# Altium footprint library Würth-Elektronik.PcbLib: 7 footprints
Each footprint in its own frame and in the unit in brackets; x right, y up, seen from the top. Pads: shape width x height; smd on the part's side, far side on the other; paste and mask are expansions set on the pad; w line width, h text height; cw(c..) or ccw(c..) is an arc to the next point about the centre after c.
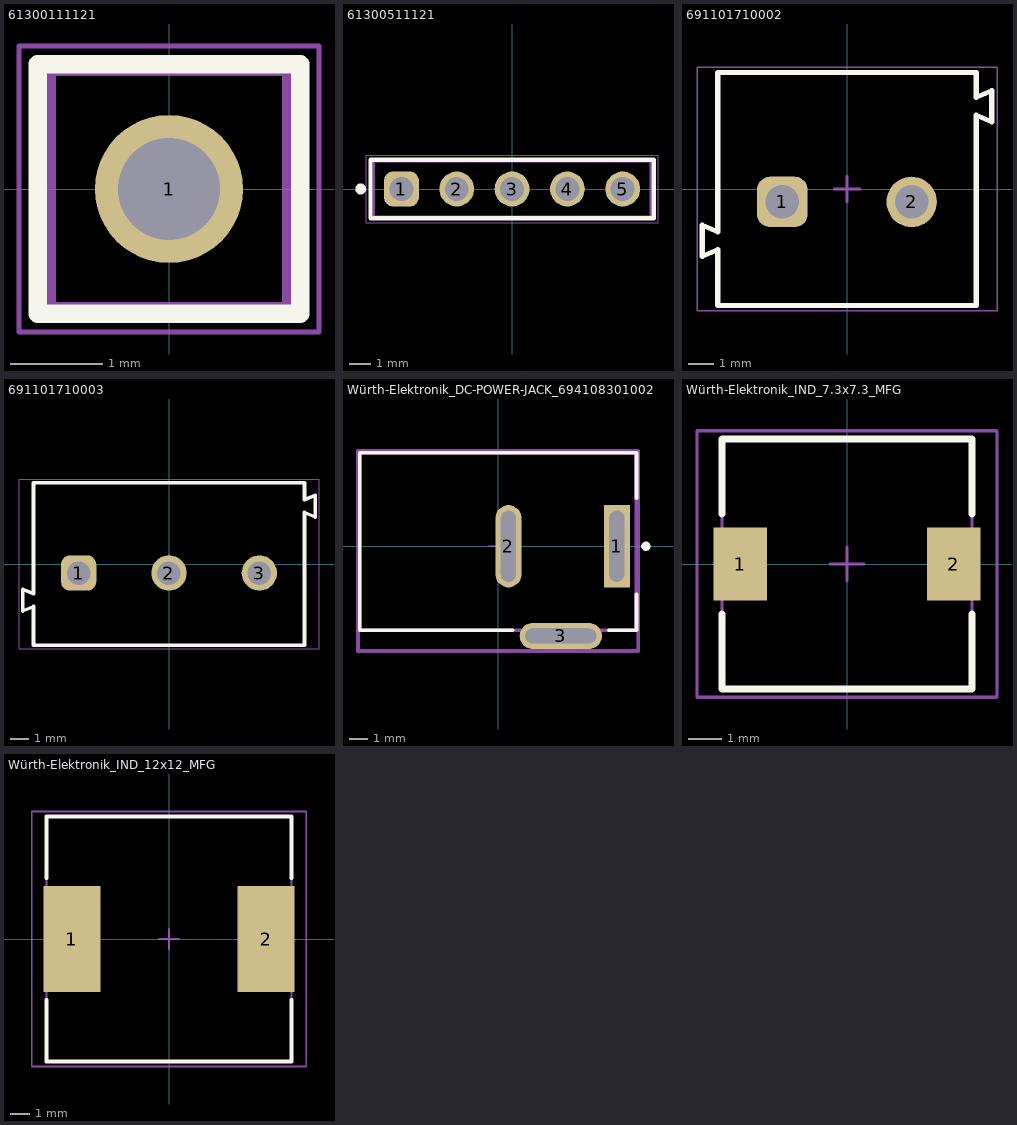
[diagram p0: the footprints below, top view; thin cyan lines are the x and y axes]

## 61300111121 [mm] "Pin Header, pitch 2.54 mm, THT, Vertical, single row, 1p"
height 8.54
pads (1):
  round 1.6 hole 1.1: 1(0,0)
Top Overlay:
  lines w0.2: -1.42,-1.345 -1.42,1.345 1.42,1.345 1.42,-1.345 -1.42,-1.345
Top Courtyard:
  lines w0.05: -1.62,-1.545 1.62,-1.545 1.62,1.545 -1.62,1.545 -1.62,-1.545
Top Component Outline:
  lines w0.1: -1.27,-1.27 1.27,-1.27 1.27,1.27 -1.27,1.27 -1.27,-1.27
Top Designator:
  text ".Designator" at -4.998,-0.333 h1
Top Component Center:
  lines w0.05: -0.5,0 0.5,0 ; 0,-0.5 0,0.5
3D body "61300111121.stp": height 8.57, standoff -2.97, extent -1.27,-1.27 1.27,1.27

## 61300511121 [mm] "Pin Header, pitch 2.54 mm, THT, Vertical, single row, 5p"
height 8.54
pads (5):
  rrect50% 1.6x1.6 hole 1.1: 1(-5.08,0)
  round 1.6 hole 1.1: 2(-2.54,0) 3(0,0) 4(2.54,0) 5(5.08,0)
Top Overlay:
  circle w0.25: c-6.95,0 r0.125
  lines w0.2: -6.5,-1.345 6.5,-1.345 6.5,1.345 -6.5,1.345 -6.5,-1.345
Top Courtyard:
  lines w0.05: -6.7,-1.545 -6.7,1.545 6.7,1.545 6.7,-1.545 -6.7,-1.545
Top Component Outline:
  lines w0.1: -6.35,-1.27 -6.35,1.27 6.35,1.27 6.35,-1.27 -6.35,-1.27
Top Designator:
  text ".Designator" at -7.498,-0.5 h1.5
Top Component Center:
  lines w0.05: -0.5,0 0.5,0 ; 0,-0.5 0,0.5
3D body "61300511121.stp": height 8.57, standoff -2.97, extent -6.35,-1.27 6.35,1.27

## 691101710002 [mm] "5,00mm - modular - blue - Horizontal entry with pressure clamp - 12,6mm height - 02p"
height 12.6
pads (2):
  rrect50% 1.95x1.95 hole 1.3: 1(-2.5,-0.5)
  round 1.95 hole 1.3: 2(2.5,-0.5)
Top Overlay:
  lines w0.2: -5,-2.35 -5.6,-2.6 -5.6,-1.4 -5,-1.65 -5,4.5 5,4.5 5,3.55 5.6,3.8 5.6,2.6 5,2.85 5,-4.5 -5,-4.5 -5,-2.35
Top Courtyard:
  lines w0.05: -5.8,-4.7 -5.8,4.7 5.8,4.7 5.8,-4.7 -5.8,-4.7
Top 3D Body:
  lines w0.1: -5,-2.35 -5.6,-2.6 -5.6,-1.4 -5,-1.65 -5,4.5 5,4.5 5,3.55 5.6,3.8 5.6,2.6 5,2.85 5,-4.5 -5,-4.5 -5,-2.35
Top Assembly:
  lines w0.1: -5,-2.35 -5.6,-2.6 -5.6,-1.4 -5,-1.65 -5,4.5 5,4.5 5,3.55 5.6,3.8 5.6,2.6 5,2.85 5,-4.5 -5,-4.5 -5,-2.35
Top Designator:
  text ".Designator" at -3.647,-0.357 h1
Top Component Center:
  lines w0.1: -0.5,0 0.5,0 ; 0,-0.5 0,0.5
3D body "691101710002.stp": height 12.65, standoff -3.75, extent -5.6,-4.5 5.6,4.5

## 691101710003 [mm] "5,00mm - modular - blue - Horizontal entry with pressure clamp - 12,6mm height - 03p"
height 12.6
pads (3):
  rrect50% 1.95x1.95 hole 1.3: 1(-5,-0.5)
  round 1.95 hole 1.3: 2(0,-0.5) 3(5,-0.5)
Top Overlay:
  lines w0.2: -7.5,-2.35 -8.1,-2.6 -8.1,-1.4 -7.5,-1.65 -7.5,4.5 7.5,4.5 7.5,3.55 8.1,3.8 8.1,2.6 7.5,2.85 7.5,-4.5 -7.5,-4.5 -7.5,-2.35
Top Courtyard:
  lines w0.05: -8.3,-4.7 8.3,-4.7 8.3,4.7 -8.3,4.7 -8.3,-4.7
Top 3D Body:
  lines w0.1: -7.5,-2.35 -8.1,-2.6 -8.1,-1.4 -7.5,-1.65 -7.5,4.5 7.5,4.5 7.5,3.55 8.1,3.8 8.1,2.6 7.5,2.85 7.5,-4.5 -7.5,-4.5 -7.5,-2.35
Top Assembly:
  lines w0.1: -7.5,-2.35 -8.1,-2.6 -8.1,-1.4 -7.5,-1.65 -7.5,4.5 7.5,4.5 7.5,3.55 8.1,3.8 8.1,2.6 7.5,2.85 7.5,-4.5 -7.5,-4.5 -7.5,-2.35
Top Designator:
  text ".Designator" at -3.647,-0.357 h1
Top Component Center:
  lines w0.1: -0.5,0 0.5,0 ; 0,-0.5 0,0.5
3D body "691101710003.stp": height 12.65, standoff -3.75, extent -8.1,-4.5 8.1,4.5

## Würth-Elektronik_DC-POWER-JACK_694108301002 [mm]
pads (3):
  rect 1.4x4.4 hole 3.8 slot 0.8 at 0 deg paste-2539.97 mask+0: 1(6.35,0)
  rrect100% 1.4x4.4 hole 3.8 slot 0.8 at 0 deg paste-2539.97 mask+0: 2(0.55,0)
  rrect100% 4.4x1.4 hole 0.8 slot 3.8 at 0 deg paste-2539.97 mask+0: 3(3.35,-4.8)
Top Overlay:
  circle w0.25: c7.9,0 r0.125
  lines w0.2: 0.775,-4.5 -7.4,-4.5 -7.4,5 7.4,5 7.4,2.575 ; 5.925,-4.5 7.4,-4.5 7.4,-2.575
Mechanical 10:
  lines w0.2: -7.5,-5.6 -7.5,5.1 7.5,5.1 7.5,-5.6 -7.5,-5.6
  text ".Designator" at 0,-0.251 h1
Mechanical 12:
  lines w0.2: -7.4,-4.5 -7.4,5 7.4,5 7.4,-4.5 -7.4,-4.5
Mechanical 15:
  lines w0.1: -0.5,0 0.5,0 ; 0,-0.5 0,0.5
  lines w0.2: -7.5,-5.6 -7.5,5.1 7.5,5.1 7.5,-5.6 -7.5,-5.6
3D body "Conn_Wurth_694108301002_eec.STEP": height 0.25, standoff 0, extent -7.5,-5.6 7.5,5.1

## Würth-Elektronik_IND_7.3x7.3_MFG [mm] "SMD Inductor, 2-Leads, Body 7.3 x 7.3 mm"
height 4.5
pads (2):
  rect 1.6x2.2 smd: 1(-3.2,0) 2(3.2,0)
Top Overlay:
  lines w0.2: -3.75,-1.5 -3.75,-3.75 3.75,-3.75 3.75,-1.5 ; -3.75,1.5 -3.75,3.75 3.75,3.75 3.75,1.5
Mechanical 13:
  lines w0.1: -3.75,-3.75 -3.75,3.75 3.75,3.75 3.75,-3.75 -3.75,-3.75
Mechanical 15:
  lines w0.1: -0.5,0 0.5,0 ; 0,-0.5 0,0.5 ; -4.5,-4 -4.5,4 4.5,4 4.5,-4 -4.5,-4
3D body "744777003.stp": height 4.49, standoff -0.01, extent -3.65,-3.7 3.65,3.6

## Würth-Elektronik_IND_12x12_MFG [mm] "SMD Inductor, 2-Leads, Body 12.0 x 12.0 mm"
height 10
pads (2):
  rect 2.9x5.4 smd: 1(-4.95,0) 2(4.95,0)
Top Overlay:
  lines w0.2: -6.25,-3.1 -6.25,-6.25 6.25,-6.25 6.25,-3.1 ; -6.25,3.1 -6.25,6.25 6.25,6.25 6.25,3.1
Mechanical 13:
  lines w0.1: -6.25,-6.25 -6.25,6.25 6.25,6.25 6.25,-6.25 -6.25,-6.25
Mechanical 15:
  lines w0.1: -0.5,0 0.5,0 ; 0,-0.5 0,0.5 ; -7,-6.5 -7,6.5 7,6.5 7,-6.5 -7,-6.5
3D body "7447709001.stp": height 10.36, standoff -0.01, extent -6,-6 6,6